# Altium schematic symbol library Switch.SchLib: 12 symbols
Pins are listed as number, name and electrical type; pins without a type are passive.

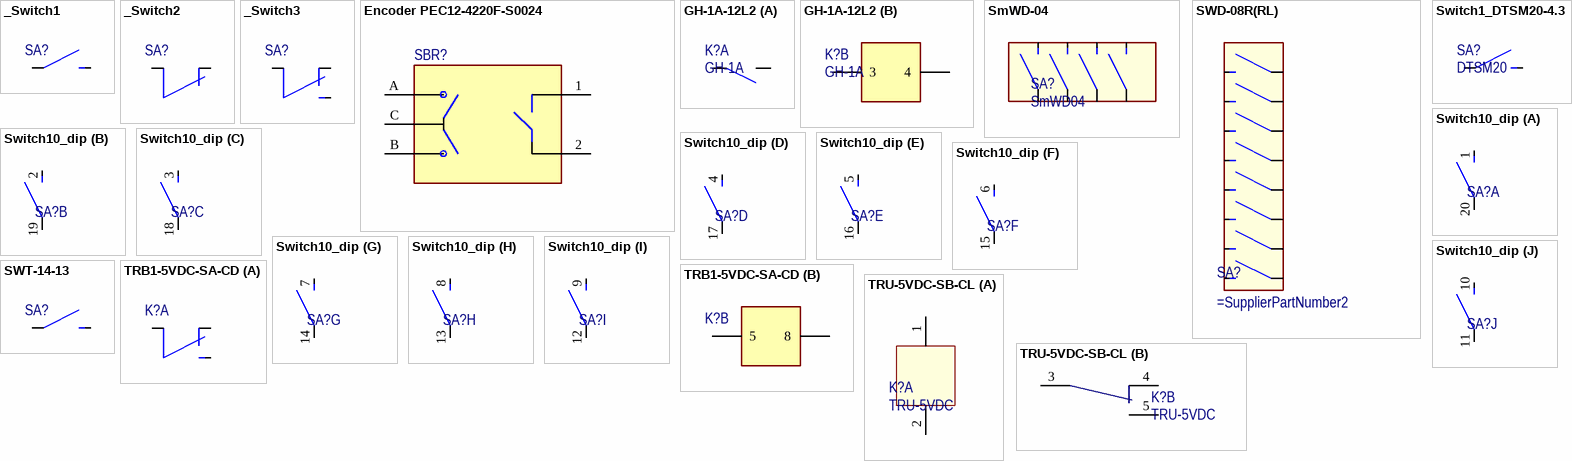
[diagram p0: symbols _Switch1 to TRU-5VDC-SB-CL]

## _Switch1
designator SA?, comment ?  (value not drawn)
Switch open; ManufacturerPartNumber: ?; ComponentLink1Description: Datasheet
pins: 1, 2

## _Switch2
designator SA?, comment ?  (value not drawn)
Switch closed; ManufacturerPartNumber: ?; ComponentLink1Description: Datasheet
pins: 1, 2

## _Switch3
designator SA?, comment ?  (value not drawn)
Changeover switch; ManufacturerPartNumber: ?; ComponentLink1Description: Datasheet
pins: 1, 2, 3

## Encoder PEC12-4220F-S0024
designator SBR?, comment PEC12-42
Энкодер с кнопкой; ManufacturerPartNumber: PEC12-4220F-S0024; Manufacturer: Bourns; ComponentLink1URL: http://www.mouser.com/ds/2/54/bourns_pec12-350254.pdf; ComponentLink1Description: http://www.mouser.com/ds/2/54/bourns_pec12-350254.pdf; Note: PEC12-42; Price: 60; Supplier: Промэлектроника
footprint PEC12-4420F-S0024
pins: 1, 2, A, B, C

## GH-1A-12L2
designator K?, comment GH-1A
Реле нормально-открытое; ManufacturerPartNumber: GH-1A-12L2; Manufacturer: Tai Shing Electronics Components Corp.; Note: GH-1A; ComponentLink1Description: Datasheet; ComponentLink1URL: http://www.dzsc.com/uploadfile/company/306168/2010513152117307.pdf; Price: 32; Package: unknown; Supplier: Промэлектроника
footprint GH-1A-12L2
part A pins: 1, 2
part B pins: 3, 4

## SmWD-04
designator SA?, comment SmWD04
Движковый переключатель для поверхностного монтажа; ManufacturerPartNumber: SmWD04 SMD; Manufacturer: Diptronics; Note: SmWD04; ComponentLink1Description: Datasheet; ComponentLink1URL: http://www.promelec.ru/catalog_info/55/140/603/630/; Price: 38; Package: SMD; Supplier: Промэлектроника
footprint SmWD-04_SMD (CFP, 8-Leads, Body 11,10x6,20mm (max), Pitch 2,54mm, IPC High Density)
pins: 1, 2, 3, 4, 5, 6, 7, 8

## SWD-08R(RL)
designator SA?
DIP Switches / SIP Switches 8 Position Extended Topside Off No Seal; Manufacturer: E-Switch; ManufacturerPartNumber: KAP1108E; ComponentLink1URL: http://www.mouser.com/ds/2/140/KAP-346163.pdf; ComponentLink1Description: http://www.mouser.com/ds/2/140/KAP-346163.pdf; Price: 50; Note: *; Supplier: *
footprint SWD-R(RL)-08 (DIP16_SWITCH)
pins: 1, 2, 3, 4, 5, 6, 7, 8, 9, 10, 11, 12, 13, 14, 15, 16

## Switch1_DTSM20-4.3
designator SA?, comment DTSM20
Switch open; ManufacturerPartNumber: DTSM20-4.3; Manufacturer: Diptronics; ComponentLink1Description: Datasheet; ComponentLink1URL: http://www.promelec.ru/catalog/407/1291/1323/1/70721/; Price: 16; Supplier: Промэлектроника; Note: DTSM20
footprint DTSM20 (DTSM20 button footprint)
pins: 1, 2

## Switch10_dip
designator SA?, comment DIP20  (value not drawn)
Выводной DIP переключатель на 10 бит; ManufacturerPartNumber: DipSwitch8; Manufacturer: ECE; Supplier: LTF; Package: DIP20; Note: *; Price: 30
footprint DIP20-Switch (Стандартный DIP20 корпус для выводных переключателей)
part A pins: 1, 20
part B pins: 2, 19
part C pins: 3, 18
part D pins: 4, 17
part E pins: 5, 16
part F pins: 6, 15
part G pins: 7, 14
part H pins: 8, 13
part I pins: 9, 12
part J pins: 10, 11

## SWT-14-13
designator SA?, comment SWT14-13  (value not drawn)
Кнопка нормально открытая 2 контакта; Manufacturer: Diptronics; ManufacturerPartNumber: SWT14-13; Price: 16; Note: *; Supplier: *
footprint SWT14
pins: 1, 2

## TRB1-5VDC-SA-CD
designator K?  (value not drawn)
Реле переключающееся 5В; Manufacturer: Tai Shing Electronics Components Corp.; ManufacturerPartNumber: TRB1-5VDC-SA-CD; ComponentLink1Description: Datasheet; ComponentLink1URL: http://www.promelec.ru/pdf/TRB.pdf; Price: 32; Package: DIP-12; Supplier: Промэлектроника
footprint TRB1-5VDC-SA-CD
part A pins: 1 COM "Common", 6 NC, 7 NO
part B pins: 5, 8

## TRU-5VDC-SB-CL
designator K?, comment TRU-5VDC
ManufacturerPurtNumber: TRU-5VDC-SB-CL; Manufacturer: Tai Shing; Note: TRU-5VDC; Price: 60; Supplier: Промэлектроника; ComponentLink1URL: http://www.promelec.ru/pdf/TRU.pdf; ComponentLink1Description: Datasheet
footprint TRU-5VDC-SB-CL
part A pins: 1, 2
part B pins: 3, 4, 5